# EAGLE library part 255-448-5 (library con-wago255)
WAGO
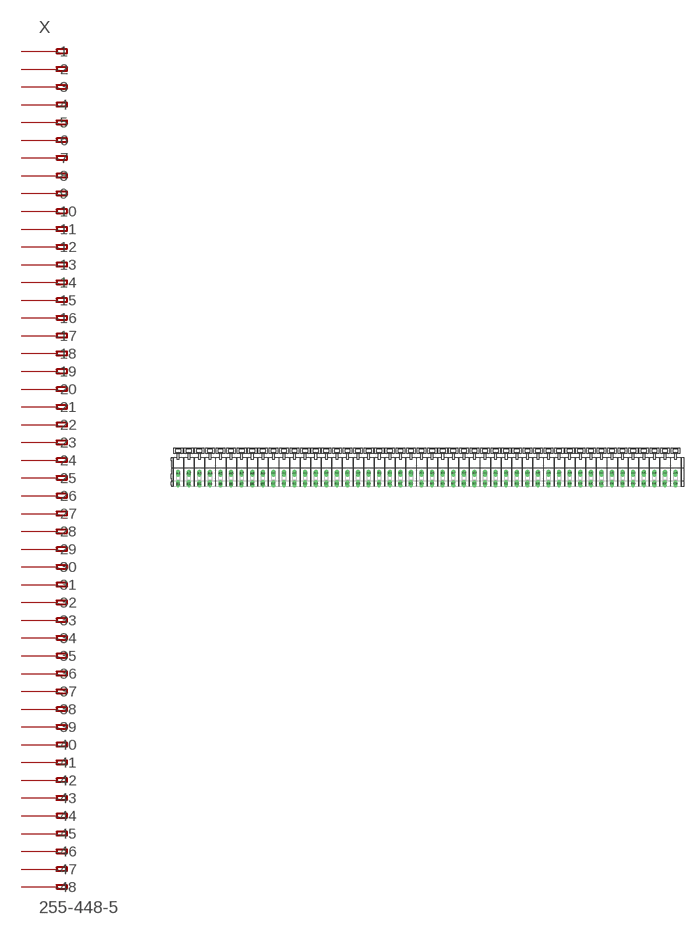
[diagram p90: symbol with the pads of 255-448-5; footprint 255-448-5]

Designator prefix X

## 255-448-5 (OC_FARNELL: unknown; OC_NEWARK: unknown)  [255-448-5]
A1  -1  pas
A2  -2  pas
A3  -3  pas
A4  -4  pas
A5  -5  pas
A6  -6  pas
A7  -7  pas
A8  -8  pas
A9  -9  pas
A10  -10  pas
A11  -11  pas
A12  -12  pas
A13  -13  pas
A14  -14  pas
A15  -15  pas
A16  -16  pas
A17  -17  pas
A18  -18  pas
A19  -19  pas
A20  -20  pas
A21  -21  pas
A22  -22  pas
A23  -23  pas
A24  -24  pas
A25  -25  pas
A26  -26  pas
A27  -27  pas
A28  -28  pas
A29  -29  pas
A30  -30  pas
A31  -31  pas
A32  -32  pas
A33  -33  pas
A34  -34  pas
A35  -35  pas
A36  -36  pas
A37  -37  pas
A38  -38  pas
A39  -39  pas
A40  -40  pas
A41  -41  pas
A42  -42  pas
A43  -43  pas
A44  -44  pas
A45  -45  pas
A46  -46  pas
A47  -47  pas
A48  -48  pas
B1  B-1  pas
B2  B-2  pas
B3  B-3  pas
B4  B-4  pas
B5  B-5  pas
B6  B-6  pas
B7  B-7  pas
B8  B-8  pas
B9  B-9  pas
B10  B-10  pas
B11  B-11  pas
B12  B-12  pas
B13  B-13  pas
B14  B-14  pas
B15  B-15  pas
B16  B-16  pas
B17  B-17  pas
B18  B-18  pas
B19  B-19  pas
B20  B-20  pas
B21  B-21  pas
B22  B-22  pas
B23  B-23  pas
B24  B-24  pas
B25  B-25  pas
B26  B-26  pas
B27  B-27  pas
B28  B-28  pas
B29  B-29  pas
B30  B-30  pas
B31  B-31  pas
B32  B-32  pas
B33  B-33  pas
B34  B-34  pas
B35  B-35  pas
B36  B-36  pas
B37  B-37  pas
B38  B-38  pas
B39  B-39  pas
B40  B-40  pas
B41  B-41  pas
B42  B-42  pas
B43  B-43  pas
B44  B-44  pas
B45  B-45  pas
B46  B-46  pas
B47  B-47  pas
B48  B-48  pas

## Footprint 255-448-5 (pad centres in mm)
Grid 5.0 mm
drill 1.2 long: A1 -117.5,0; A2 -112.5,0; A3 -107.5,0; A4 -102.5,0; A5 -97.5,0; A6 -92.5,0; A7 -87.5,0; A8 -82.5,0; A9 -77.5,0; A10 -72.5,0; A11 -67.5,0; A12 -62.5,0; A13 -57.5,0; A14 -52.5,0; A15 -47.5,0; A16 -42.5,0; A17 -37.5,0; A18 -32.5,0; A19 -27.5,0; A20 -22.5,0; A21 -17.5,0; A22 -12.5,0; A23 -7.5,0; A24 -2.5,0; A25 2.5,0; A26 7.5,0; A27 12.5,0; A28 17.5,0; A29 22.5,0; A30 27.5,0; A31 32.5,0; A32 37.5,0; A33 42.5,0; A34 47.5,0; A35 52.5,0; A36 57.5,0; A37 62.5,0; A38 67.5,0; A39 72.5,0; A40 77.5,0; A41 82.5,0; A42 87.5,0; A43 92.5,0; A44 97.5,0; A45 102.5,0; A46 107.5,0; A47 112.5,0; A48 117.5,0; B1 -117.5,-5; B2 -112.5,-5; B3 -107.5,-5; B4 -102.5,-5; B5 -97.5,-5; B6 -92.5,-5; B7 -87.5,-5; B8 -82.5,-5; B9 -77.5,-5; B10 -72.5,-5; B11 -67.5,-5; B12 -62.5,-5; B13 -57.5,-5; B14 -52.5,-5; B15 -47.5,-5; B16 -42.5,-5; B17 -37.5,-5; B18 -32.5,-5; B19 -27.5,-5; B20 -22.5,-5; B21 -17.5,-5; B22 -12.5,-5; B23 -7.5,-5; B24 -2.5,-5; B25 2.5,-5; B26 7.5,-5; B27 12.5,-5; B28 17.5,-5; B29 22.5,-5; B30 27.5,-5; B31 32.5,-5; B32 37.5,-5; B33 42.5,-5; B34 47.5,-5; B35 52.5,-5; B36 57.5,-5; B37 62.5,-5; B38 67.5,-5; B39 72.5,-5; B40 77.5,-5; B41 82.5,-5; B42 87.5,-5; B43 92.5,-5; B44 97.5,-5; B45 102.5,-5; B46 107.5,-5; B47 112.5,-5; B48 117.5,-5